# EAGLE library part LM393D (library LM393D)
To Check availability click here.! <https://punoscho.in/product/lm393-dual-comparator-th-8pdip/>
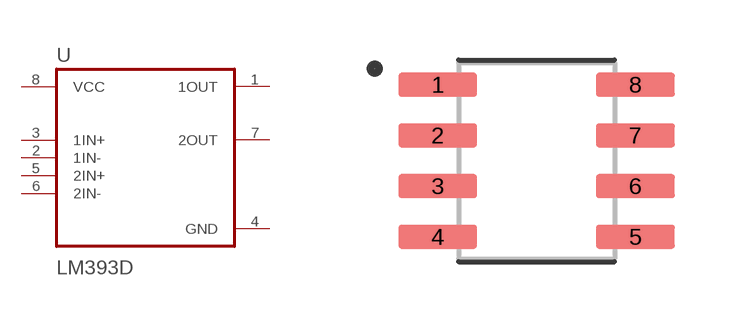
[diagram p0: symbol with the pads of SOIC127P599X175-8N; footprint SOIC127P599X175-8N]

Designator prefix U

## LM393D (DESCRIPTION: Dual differential comparator, commercial grade; MFR: Texas Instruments; MFR-PN: LM393D; PACKAGE: SOIC-8; SUPPLIER: Punoscho.in; SUPPLIER-PN: PU-0107)  [SOIC127P599X175-8N]
1  1OUT  out
2  1IN-  in
3  1IN+  in
4  GND  pwr
5  2IN+  in
6  2IN-  in
7  2OUT  out
8  VCC  pwr

## Footprint SOIC127P599X175-8N (pad centres in mm)
smd 1.97 x 0.6: 1 -2.47,1.905; 2 -2.47,0.635; 3 -2.47,-0.635; 4 -2.47,-1.905; 5 2.47,-1.905; 6 2.47,-0.635; 7 2.47,0.635; 8 2.47,1.905